# EAGLE library part RS485-HALF_DUPLEX_TRANSCEIVER (library everykey)
RS485 half duplex transceiver, e.g.EXAR SP3070-SP3078 (70,73,76:SOIC8-150MIL).
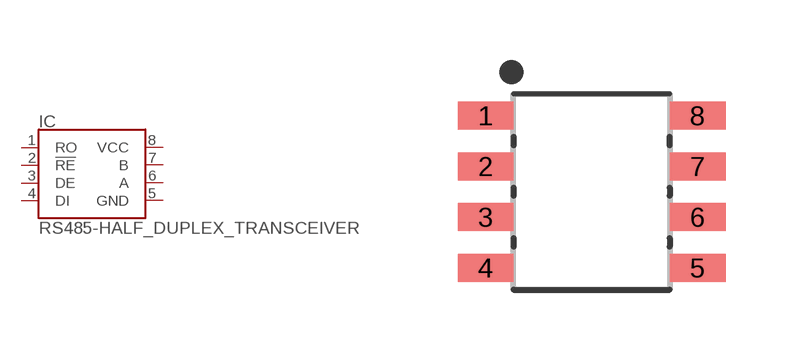
[diagram p57: symbol with the pads of SOIC8-150MIL; footprint SOIC8-150MIL]

Designator prefix IC

## RS485-HALF_DUPLEX_TRANSCEIVERSOIC8-150MIL  [SOIC8-150MIL]
1  RO  out
2  !RE  in
3  DE  in
4  DI  in
5  GND  pwr
6  A
7  B
8  VCC  pwr

## Footprint SOIC8-150MIL (pad centres in mm)
SOIC-8 package for 150mil (3.8-4mm) wide body.
smd 1.4 x 0.7: 1 -2.65,1.905; 2 -2.65,0.635; 3 -2.65,-0.635; 4 -2.65,-1.905; 5 2.65,-1.905; 6 2.65,-0.635; 7 2.65,0.635; 8 2.65,1.905